# EAGLE library part N25S0830HA (library Pygmy)
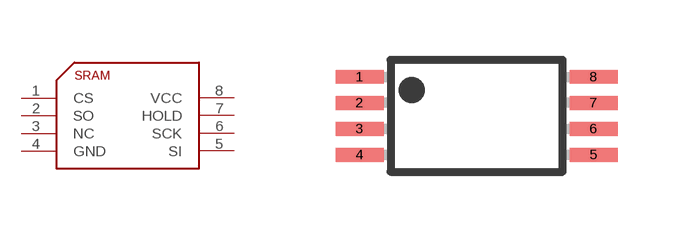
[diagram p12: symbol with the pads of TSSOP8; footprint TSSOP8]

Designator prefix -

## N25S0830HA  [TSSOP8]
1  CS
2  SO
3  NC
4  GND
5  SI
6  SCK
7  HOLD
8  VCC

## Footprint TSSOP8 (pad centres in mm)
Plastic Small Outline
smd 1.2 x 0.35: 1 -2.925,0.975; 2 -2.925,0.325; 3 -2.925,-0.325; 4 -2.925,-0.975; 5 2.925,-0.975; 6 2.925,-0.325; 7 2.925,0.325; 8 2.925,0.975